# Altium schematic symbol library ZX62D-B-5P8.SchLib: 1 symbol
Pins are listed as number, name and electrical type; pins without a type are passive.

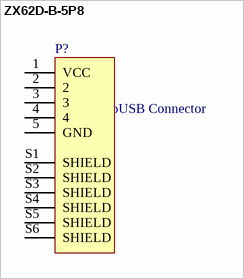
[diagram p0: symbol ZX62D-B-5P8]

## ZX62D-B-5P8
designator P?  value MicroUSB Connector  (hidden comment: ZX62D-B-5P8)
USB - micro B USB 2.0 Receptacle Connector 5 Position Surface Mount, Right Angle; Through Hole; MF: Hirose; SnapEDA_Link: https://www.snapeda.com/parts/ZX62D-B-5P8/Hirose%20Electric%20Co%20Ltd/view-part/110243/?ref=snap; Price: None; Availability: Unavailable; Package: None; MP: ZX62D-B-5P8; Supplier 1: Digi-Key; Supplier Part Number 1: 609-5379-6-ND
footprint *HRS_ZX62D-B-5P8_ZX62D-B-5P8(Primary)
pins: 1 VCC, 2, 3, 4, 5 GND, S1 SHIELD, S2 SHIELD, S3 SHIELD, S4 SHIELD, S5 SHIELD, S6 SHIELD